# Altium schematic symbol library Schlib1.SchLib: 3 symbols
Pins are listed as number, name and electrical type; pins without a type are passive.

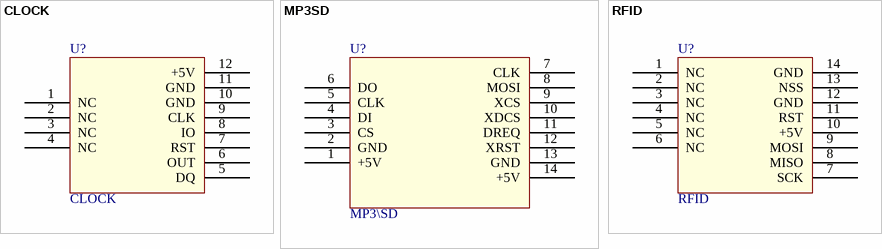
[diagram p0: symbols CLOCK to RFID]

## CLOCK
designator U?
footprint CLOCK
pins: 1 NC, 2 NC, 3 NC, 4 NC, 5 DQ, 6 OUT, 7 RST, 8 IO, 9 CLK, 10 GND, 11 GND, 12 +5V

## MP3SD
designator U?, comment MP3\SD
footprint MP3SD
pins: 1 +5V, 2 GND, 3 CS, 4 DI, 5 CLK, 6 DO, 7 CLK, 8 MOSI, 9 XCS, 10 XDCS, 11 DREQ, 12 XRST, 13 GND, 14 +5V

## RFID
designator U?
footprint RFID
pins: 1 NC, 2 NC, 3 NC, 4 NC, 5 NC, 6 NC, 7 SCK, 8 MISO, 9 MOSI, 10 +5V, 11 RST, 12 GND, 13 NSS, 14 GND